# EAGLE library part MC14073B (library magic)
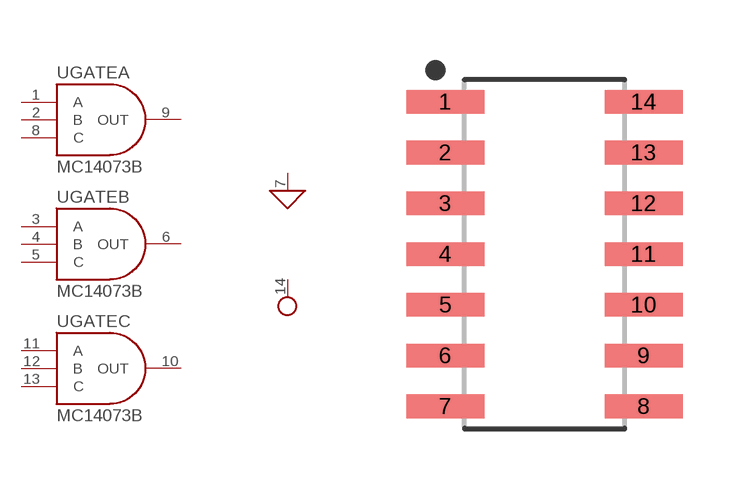
[diagram p7: symbol with the pads of MC140XXBG; footprint MC140XXBG]

Designator prefix -; gates GATEB=3-INPUT_AND GATEA=3-INPUT_AND GATEC=3-INPUT_AND GND=GND VDD=PWR

## MC14073B  [MC140XXBG]
1  GATEA:A
2  GATEA:B
3  GATEB:A
4  GATEB:B
5  GATEB:C
6  GATEB:OUT
7  GND:1
8  GATEA:C
9  GATEA:OUT
10  GATEC:OUT
11  GATEC:A
12  GATEC:B
13  GATEC:C
14  VDD:1

## Footprint MC140XXBG (pad centres in mm)
14-SOIC, 1.27 mm pitch, 6.00 mm span, 8.65 X 3.90 X 1.75 mm body 14-pin SOIC package with 1.27 mm pitch, 6.00 mm span with body size 8.65 X 3.90 X 1.75 mm
smd 1.952 x 0.589: 1 -2.482,3.81; 2 -2.482,2.54; 3 -2.482,1.27; 4 -2.482,0; 5 -2.482,-1.27; 6 -2.482,-2.54; 7 -2.482,-3.81; 8 2.482,-3.81; 9 2.482,-2.54; 10 2.482,-1.27; 11 2.482,0; 12 2.482,1.27; 13 2.482,2.54; 14 2.482,3.81